# Altium schematic symbol library TMC6100.Schlib: 1 symbol
Pins are listed as number, name and electrical type; pins without a type are passive.

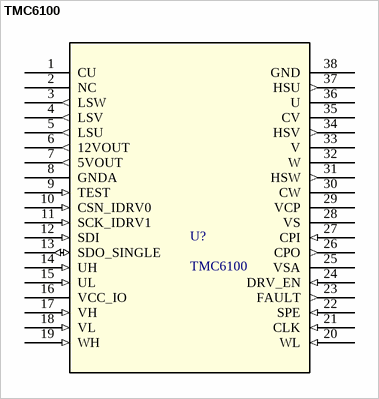
[diagram p0: symbol TMC6100]

## TMC6100
designator U?
GATE DRIVER IC 8-60V QFN37
footprint QFN50P700X700X85_HS-38N (QFN, 44-Leads, Body 7.00x7.00mm, Pitch 0.50mm, Thermal Pad 4.00x4.00mm, IPC Medium Density)
pins: 1 CU, 2 NC, 3 LSW (out), 4 LSV (out), 5 LSU (out), 6 12VOUT (out), 7 5VOUT (out), 8 GNDA (power), 9 TEST (in), 10 CSN_IDRV0 (in), 11 SCK_IDRV1 (in), 12 SDI (in), 13 SDO_SINGLE (io), 14 UH (in), 15 UL (in), 16 VCC_IO (power), 17 VH (in), 18 VL (in), 19 WH (in), 20 WL (in), 21 CLK (in), 22 SPE (in), 23 FAULT (out), 24 DRV_EN (in), 25 VSA (power), 26 CPO (out), 27 CPI (in), 28 VS (power), 29 VCP (power), 30 CW, 31 HSW (out), 32 W, 33 V, 34 HSV (out), 35 CV, 36 U, 37 HSU (out), 38 GND